# Altium schematic symbol library AU0005.SCHLIB: 67 symbols (part 2 of 2)
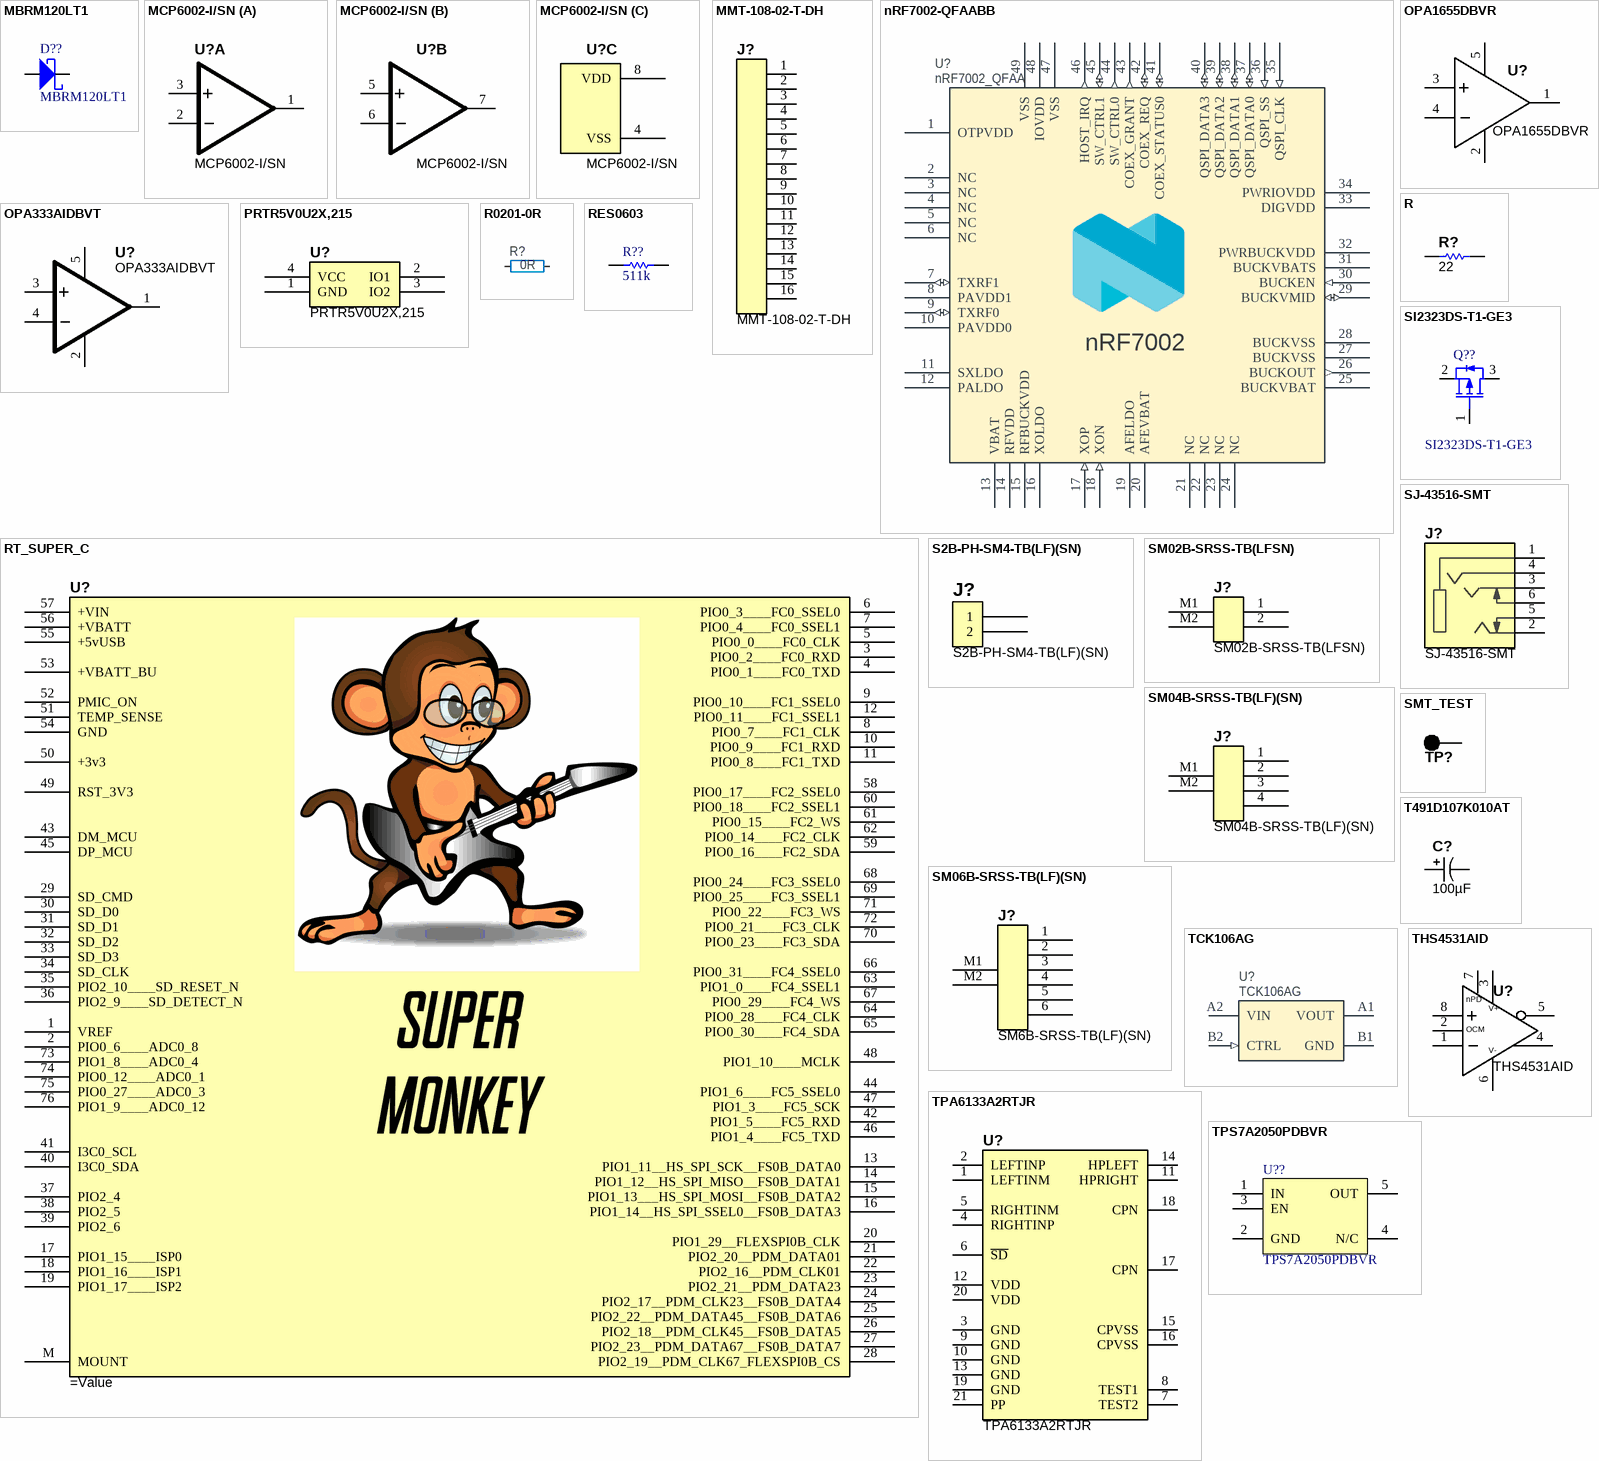
[diagram p3: symbols MBRM120LT1 to TPS7A2050PDBVR]

## S2B-PH-SM4-TB(LF)(SN)
designator J?
CONN HEADER PH SIDE 2POS 2MM SMD; Manufacturer: JST Sales America Inc; Connector Type: Header, Shrouded; Number of Positions: 2; Number of Positions Loaded: All; Pitch: 0.079" (2.00mm); Value: S2B-PH-SM4-TB(LF)(SN); Supplier 1: Digi-Key; Supplier Part Number 1: 455-1749-1-ND; Manufacturer Part Number: S2B-PH-SM4-TB(LF)(SN); RoHS: RoHS Compliant; Category: Connectors, Interconnects; Stock 1: 17700; Pricing 1: 1=0.5, 10=0.457, 100=0.3809, 500=0.3047 (USD); Contact Type: Male Pin; Number of Rows: 1; Row Spacing: -; Contact Mating Length: -; Mounting Type: Surface Mount, Right Angle; Termination: Solder; Fastening Type: -; Features: Solder Retention; Contact Finish: Tin; Contact Finish Thickness: -; Color: Natural; Packaging: Cut Tape (CT); ComponentLink1URL: http://www.jst-mfg.com/product/pdf/eng/ePH.pdf; ComponentLink1Description: http://www.jst-mfg.com/product/pdf/eng/ePH.pdf
footprint S2B-PH-SM4-TB(LF)(SN) (CONN HEADER PH SIDE 2POS 2MM SMD)
pins: 1, 2

## SI2323DS-T1-GE3
designator Q??
Single P-Channel 20 V 0.039 O 19 nC Surface Mount Power Mosfet - SOT-23; Manufacturer: Vishay Siliconix; Nominal Vgs: -1V; Rds On Max: 39mR; Input Capacitance: 1.02nF; Rise Time: 43ns; Drain to Source Voltage (Vdss): -20V; Continuous Drain Current (ID): 3.7A; Max Power Dissipation: 750mW; Gate to Source Voltage (Vgs): 8V; Turn-Off Delay Time: 71ns; Number of Elements: 1; Turn-On Delay Time: 25ns; Supplier: Digi-Key; Supplier Part Number: SI2323DS-T1-GE3CT-ND; Manufacturer Part Number: SI2323DS-T1-GE3; RoHS: Yes; Category: MOSFETs; Stock: 21430; Pricing: 1=0.73000, 10=0.64600, 100=0.49540, 500=0.39164, 1000=0.31332 (USD); Mounting Technology: Surface Mount; Case/Package: SOT-23-3; Pins: 3; Weight: 0.050717oz; Min Operating Temperature: -55°C; Max Operating Temperature: 150°C; Packaging: Tape and Reel; Package Quantity: 3000; Drain to Source Resistance: 39mR; Fall Time: 43ns; Power Dissipation: 750mW; Threshold Voltage: -1V; Element Configuration: Single; Drain to Source Breakdown Voltage: -20V; Number of Channels: 1; On-State Resistance: 39mR; Polarity: P-CHANNEL; Series: TrenchFET®; Drain-source On Resistance-Max: 39mR; Length: 3.04mm; Width: 1.4mm; Height: 1.02mm; Radiation Hardening: No; Lead Free: Lead Free; RoHS Compliant: Yes; ComponentLink1URL: https://datasheet.ciiva.com/943/72024-943572.pdf?src-supplier=Digi-Key; ComponentLink1Description: https://datasheet.ciiva.com/943/72024-943572.pdf?src-supplier=Digi-Key; ComponentLink2URL: https://datasheet.ciiva.com/943/72024-943573.pdf?src-supplier=Digi-Key; ComponentLink2Description: https://datasheet.ciiva.com/943/72024-943573.pdf?src-supplier=Digi-Key; ComponentLink3URL: https://datasheet.ciiva.com/943/72024-943574.pdf?src-supplier=Digi-Key; ComponentLink3Description: https://datasheet.ciiva.com/943/72024-943574.pdf?src-supplier=Digi-Key; ComponentLink4URL: https://datasheet.ciiva.com/11161/72024-11161611.pdf?src-supplier=Avnet; ComponentLink4Description: https://datasheet.ciiva.com/11161/72024-11161611.pdf?src-supplier=Avnet; ComponentLink5URL: https://datasheet.ciiva.com/16486/72024-16486094.pdf?src-supplier=Future+Electronics; ComponentLink5Description: https://datasheet.ciiva.com/16486/72024-16486094.pdf?src-supplier=Future+Electronics; ComponentLink6URL: https://datasheet.ciiva.com/7788/72024-7788762.pdf?src-supplier=Element14; ComponentLink6Description: https://datasheet.ciiva.com/7788/72024-7788762.pdf?src-supplier=Element14; ComponentLink7URL: https://datasheet.ciiva.com/28603/1911968-28603500.pdf?src-supplier=Element14; ComponentLink7Description: https://datasheet.ciiva.com/28603/1911968-28603500.pdf?src-supplier=Element14
footprint SOT95P237X89-3N (SOT23, 3-Leads, Body 2.92x2.37mm, Pitch 0.95mm, IPC Medium Density)
pins: 1 G, 2 S, 3 D

## SJ-43516-SMT
designator J?
Conn 3.5MM Audio Jack F 6 POS Solder RA SMD 6 Terminal 1 Port; Manufacturer: CUI Devices; Manufacturer Part Number: SJ-43516-SMT-TR; Value: SJ-43516-SMT; Package: 3.5MM SMD R/A; Price: $1.24; Availability: Available
footprint CUI_SJ-43516-SMT
pins: 1 SLEEVE, 2 TIP, 3 RING1, 4 RING2, 5 TIP_SWITCH, 6 RING_SWITCH

## SM02B-SRSS-TB(LFSN)
designator J?
JST SH Series, 1mm Pitch 2 Way 1 Row Right Angle PCB Header, Solder Termination, 1A; Number of Contacts: 2; Voltage Rating: 50V; Value: SM02B-SRSS-TB(LFSN); Manufacturer Part Number: SM02B-SRSS-TB(LFSN); Manufacturer: JST; Supplier 1: Digi-Key; Supplier Part Number 1: 455-1802-1-ND; Stock 1: 36619; Pricing 1: 1=0.44, 10=0.415, 100=0.3185, 500=0.277, 1000=0.22852 (USD); Contact Material: Copper Alloy; Number of Rows: 1; Termination: Solder; Orientation: Right Angle; Current Rating: 1A; Pitch: 1mm; ComponentLink1URL: https://datasheet.ciiva.com/11746/0900766b805b098a-11746439.pdf; ComponentLink1Description: https://datasheet.ciiva.com/11746/0900766b805b098a-11746439.pdf
footprint SM02B-SRSS-TB(LF)(SN) (CONN HEADER SH 2POS SIDE 1MM TIN)
pins: 1, 2, M1, M2

## SM04B-SRSS-TB(LF)(SN)
designator J?
Conn Shrouded Header HDR 4 POS 1mm Solder RA SMD T/R; Manufacturer: JST; Number of Positions: 4; Connector Type: Male Pin; Contact Resistance: 40mR; Max Current Rating: 1A; Max Voltage Rating (AC): 50V; Pitch: 0.039inch; Value: SM04B-SRSS-TB(LF)(SN); Supplier 1: Digi-Key; Manufacturer Part Number: SM04B-SRSS-TB(LF)(SN); Stock 1: 43886; Pricing 1: 1=0.61, 10=0.569, 100=0.436, 500=0.37914, 1000=0.31279 (USD); Mount: Surface Mount; Contact Material: Copper Alloy; Contact Plating: Copper,Tin; Colour: Natural; Housing Colour: Beige; Housing Material: Polyamide; Min Operating Temperature: -25°C; Max Operating Temperature: 85°C; Number of Rows: 1; Termination: Solder; Packaging: Tape and Reel; Orientation: Right Angle; Number of Contacts: 4; Max Voltage Rating (DC): 50V; Length: 6mm; Depth: 4.95mm; Lead Free: Lead Free; ComponentLink1URL: https://datasheet.ciiva.com/26894/getdatasheetpartid-499363-26894945.pdf; ComponentLink1Description: https://datasheet.ciiva.com/26894/getdatasheetpartid-499363-26894945.pdf; ComponentLink2URL: https://datasheet.ciiva.com/26894/getdatasheetpartid-640736-26894676.pdf; ComponentLink2Description: https://datasheet.ciiva.com/26894/getdatasheetpartid-640736-26894676.pdf; ComponentLink3URL: https://datasheet.ciiva.com/16487/jstsm04b-srss-tb-lf-sn-16487222.pdf; ComponentLink3Description: https://datasheet.ciiva.com/16487/jstsm04b-srss-tb-lf-sn-16487222.pdf; Supplier Part Number 1: 455-1804-1-ND
footprint SM04B-SRSS-TB(LF)(SN) (CONN HEADR SH 4POS SIDE 1MM TIN)
pins: 1, 2, 3, 4, M1, M2

## SM06B-SRSS-TB(LF)(SN)
designator J?, comment SM6B-SRSS-TB(LF)(SN)
6 Positions Header, Shrouded Connector 0.039" (1.00mm) Surface Mount, Right Angle Tin; Manufacturer: JST; Manufacturer Part Number: SM06B-SRSS-TB(LF)(SN); Number of Positions: 6; Connector Type: Male Pin; Contact Resistance: 40mR; Pitch: 1mm; Current Rating: 1A; Voltage Rating (AC): 50V; Insulation Resistance: 100MR; Gender: Male; Value: SM6B-SRSS-TB(LF)(SN); Supplier 1: Digi-Key; Stock 1: 40560; Pricing 1: 1=0.83, 10=0.782, 100=0.5996, 500=0.5214, 1000=0.4301 (USD); Mount: Surface Mount; Contact Material: Copper,Copper Alloy; Contact Plating: Copper,Tin,Lead; Colour: Natural; Housing Colour: Beige; Housing Material: Polyamide; Min Operating Temperature: -25°C; Max Operating Temperature: 85°C; Number of Rows: 1; Termination: Solder; Packaging: Tape and Reel; Orientation: Right Angle; Number of Contacts: 6; Lead Free: Lead Free; ComponentLink1URL: https://datasheet.ciiva.com/11752/0900766b8082f544-11752176.pdf; ComponentLink1Description: https://datasheet.ciiva.com/11752/0900766b8082f544-11752176.pdf; ComponentLink2URL: https://datasheet.ciiva.com/16217/sm06b-srss-tblfsn-16217552.pdf; ComponentLink2Description: https://datasheet.ciiva.com/16217/sm06b-srss-tblfsn-16217552.pdf; ComponentLink3URL: https://datasheet.ciiva.com/26894/getdatasheetpartid-490708-26894951.pdf; ComponentLink3Description: https://datasheet.ciiva.com/26894/getdatasheetpartid-490708-26894951.pdf; Supplier Part Number 1: 455-1806-1-ND; Material: Polyamide; Voltage Rating: 50V; Lead Pitch: 1mm; REACH SVHC: No SVHC; Flammability Rating: UL94 V-0; ComponentLink4URL: https://datasheet.ciiva.com/26894/getdatasheetpartid-639890-26894680.pdf; ComponentLink4Description: https://datasheet.ciiva.com/26894/getdatasheetpartid-639890-26894680.pdf; ComponentLink5URL: https://datasheet.ciiva.com/8052/91630-8052281.pdf; ComponentLink5Description: https://datasheet.ciiva.com/8052/91630-8052281.pdf; ComponentLink6URL: https://datasheet.ciiva.com/712/esr-712571.pdf; ComponentLink6Description: https://datasheet.ciiva.com/712/esr-712571.pdf; Max Current Rating: 1A; Max Voltage Rating (AC): 50V; Max Voltage Rating (DC): 50V; Length: 8mm; Depth: 4.95mm; ComponentLink7URL: https://datasheet.ciiva.com/712/esr-712572.pdf; ComponentLink7Description: https://datasheet.ciiva.com/712/esr-712572.pdf; ComponentLink8URL: https://datasheet.ciiva.com/730/esr-730671.pdf; ComponentLink8Description: https://datasheet.ciiva.com/730/esr-730671.pdf
footprint SM06B-SRSS-TB(LF)(SN) (CONN HEADR SH 6POS SIDE 1MM TIN)
pins: 1, 2, 3, 4, 5, 6, M1, M2

## SMT_TEST
designator TP?  (value not drawn)  (no BOM)
Value: SMT_TEST
footprint SMT_TP - 35 (.035" SMT Test pad)
footprint SMT_TP - 25 (.025" SMT Test pad)
footprint SMT_TP - 50 (.050" SMT Test pad)
footprint SMT_TP - 75 (.075" SMT Test pad)
footprint SMT_TP - 100 (.100" SMT Test pad)
footprint SMT_TP - 20 (.020" SMT Test pad)
footprint SMT_TP - 25 x 50 (.025" x .050" SMT Test pad)
pins: 1

## T491D107K010AT
designator C?, comment 100µF
CAP TANT 100UF 10V 10% 2917; Manufacturer Part Number: T491D107K010AT; Manufacturer: Kemet; ESR (Equivalent Series Resistance): 700 mOhm; Type: Molded; Package1: 2917 (7343 Metric); Lifetime @ Temp#: 2000 Hrs @ 85°C; Value_Voltage: 100µF_10V; Value: 100µF; Temperature Coefficient: Temperature Coefficient; ComponentLink1Description: Internal Datasheet; ComponentLink1URL: http://www.kemet.com/Lists/ProductCatalog/Attachments/254/KEM_T2005_T491.pdf; ComponentLink2Description: External Datasheet; ComponentLink2URL: http://www.kemet.com/Lists/ProductCatalog/Attachments/254/KEM_T2005_T491.pdf; Stocked: 0; Supplier 1: Digi-Key; Supplier Part Number 1: 399-3769-1-ND; Category: Capacitors; Sort Value: 100000000; Package: D; Sort Value Package: D_100000000; Capacitance: 100µF; Voltage - Rated: 10V; Tolerance: ±10%; Operating Temperature: -55°C ~ 125°C; Mounting Type: Surface Mount; Size / Dimension: 0.287" L x 0.169" W (7.30mm x 4.30mm); Height - Seated (Max): 0.122" (3.10mm); Lead Spacing: -; Features: General Purpose; Packaging: Cut Tape (CT)
footprint C_TANT_D_HD
footprint C_TANT_D_MD
footprint C_TANT_D_LD
pins: 1, 2 1

## TCK106AG
designator U?
1.0 A Load Switch IC with Slew Rate Control Driver in Ultra Small Package; Manufacturer: Toshiba; Manufacturer Part Number: TCK106AG,LF; Part number IPS: 00000004390; Part number Norautron: 26500627; Part number NEMS: 101900575; Note: N.A.; Pad Count: 4; Component Status: Active; Part Number: TCK106AG; ComponentLink1URL: https://toshiba.semicon-storage.com/info/docget.jsp?did=30131&prodName=TCK106AG; ComponentLink1Description: Datasheet; ComponentLink2URL: N.A.; ComponentLink2Description: Supplier link; HelpURL: N.A.; Footprint Doc: WLCSP-4; LatestRevisionDate: 2019-03-01; Published: 2019-02-17; Value: TCK106AG; Supplier 1: Digi-Key; Supplier Part Number 1: TCK106AGLFTR-ND; Supplier 2: Mouser; Supplier Part Number 2: 757-TCK106AGLF; Artikkelnr Noca: N.A.; Component Class: Misc_ICs; PartId: 101900575; Author: rsk
footprint BGA4C40P2X2_76X76X62 (BGA, 4-Leads, Body 0.8x0.8mm,  Pitch 0.40mm)
pins: A1 VOUT (power), A2 VIN (power), B1 GND (power), B2 CTRL (in)

## THS4531AID
designator U?
Operational Amplifiers - Op Amps Ultra Lo Pwr RRO Fully-Diff Amp; Manufacturer: Texas Instruments; Voltage Gain: 114dB; Common Mode Rejection Ratio: 90dB; Slew Rate: 15V/µs; Number of Channels: 1; Input Bias Current: 200nA; Input Offset Voltage (Vos): 100uV; Min Supply Voltage: 2.5V; Max Supply Voltage: 5.5V; Gain Bandwidth Product: 27MHz; Operating Supply Current: 250uA; Amplifier Type: GENERAL PURPOSE; Min Dual Supply Voltage: 1.25V; Max I/O Voltage: 400uV; Max Dual Supply Voltage: 2.75V; Output Current: 50mA; Nominal Gain Bandwidth Product: 36MHz; Power Supply Rejection Ratio (PSRR): 87dB; Supplier 1: Digi-Key; Manufacturer Part Number: THS4531AID; RoHS: Yes; Category: Amplifiers - Op Amps, Buffer, Instrumentation; Stock 1: 3055; Pricing 1: 1=4.06000, 10=3.65000, 25=3.45120, 100=2.99090, 250=2.83756, 500=2.54614, 1000=2.53225 (USD); Case/Package: D; Number of Pins: 8; Min Operating Temperature: -40°C; Max Operating Temperature: 125°C; Package Quantity: 75; Packaging: Rail/Tube; Number of Circuits: 1; Number of Elements: 1; Series: -; Number of Amplifiers: 1; Nominal Supply Current: 250uA; Supply Current: 250uA; Unity Gain Bandwidth Product: 27MHz; Bandwidth: 36MHz; Max Supply Current: 250uA; Length: 5mm; Width: 4mm; Height: 1.5mm; Radiation Hardening: No; Lead Free: Lead Free; REACH SVHC: No SVHC; ComponentLink1URL: https://datasheet.ciiva.com/6630/ths4531a-6630465.pdf?src-supplier=Digi-Key; ComponentLink1Description: https://datasheet.ciiva.com/6630/ths4531a-6630465.pdf?src-supplier=Digi-Key; ComponentLink2URL: https://datasheet.ciiva.com/22657/1698036-22657688.pdf?src-supplier=Element14; ComponentLink2Description: https://datasheet.ciiva.com/22657/1698036-22657688.pdf?src-supplier=Element14; ComponentLink3URL: https://datasheet.ciiva.com/28429/ths4531a-28429749.pdf?src-supplier=Avnet+Europe; ComponentLink3Description: https://datasheet.ciiva.com/28429/ths4531a-28429749.pdf?src-supplier=Avnet+Europe; Value: THS4531AID; Supplier Part Number 1: 296-35604-5-ND
footprint SOIC 8
pins: 1 -, 2 OCM, 3 VS+, 4 OUT+, 5 OUT-, 6 VS-, 7 PD, 8 +
text: nPD; V+; V-

## TPA6133A2RTJR
designator U?
138mW DirectPath Headphone Amplifier with GPIO control; Manufacturer: Texas Instruments; Geometry.Height: 0.8mm; Mouser Part Number: 595-TPA6133A2RTJR; Mouser Price/Stock: https://www.mouser.co.uk/ProductDetail/Texas-Instruments/TPA6133A2RTJR?qs=xahoIJ7Tb4BkyS7VmN%2FRcw%3D%3D; Manufacturer Part Number: TPA6133A2RTJR; Datasheet Link: http://www.ti.com/lit/gpn/tpa6133a2; Value: TPA6133A2RTJR
footprint QFN20 (QFN, 20-Leads, Body 4.0x4.0mm (max), Pitch 0.50mm, IPC High Density)
pins: 1 LEFTINM, 2 LEFTINP, 3 GND, 4 RIGHTINP, 5 RIGHTINM, 6 ~{SD}, 7 TEST2, 8 TEST1, 9 GND, 10 GND, 11 HPRIGHT, 12 VDD (power), 13 GND, 14 HPLEFT, 15 CPVSS (power), 16 CPVSS (power), 17 CPN (power), 18 CPN (power), 19 GND, 20 VDD (power), 21 PP

## TPS7A2050PDBVR
designator U??
300-mA, ultra-low-noise, low-IQ, low-dropout (LDO) linear regulator with high PSRR 5-SOT-23 -40 to 125; Manufacturer: Texas Instruments; Supplier: Mouser; Supplier Part Number: 595-TPS7A2050PDBVR; Manufacturer Part Number: TPS7A2050PDBVR; RoHS: Yes; Category: Voltage Regulators - Linear; Stock: 73824; Pricing: 1=0.49000, 10=0.41800, 50=0.41800, 100=0.29000, 1000=0.19000, 10000=0.15200 (USD); RoHS Compliant: Yes
footprint SOT95P245X110-5N (SOT23, 5-Leads, Body 2.90x2.45mm, Pitch 0.95mm, IPC Medium Density)
pins: 1 IN, 2 GND, 3 EN, 4 N/C, 5 OUT

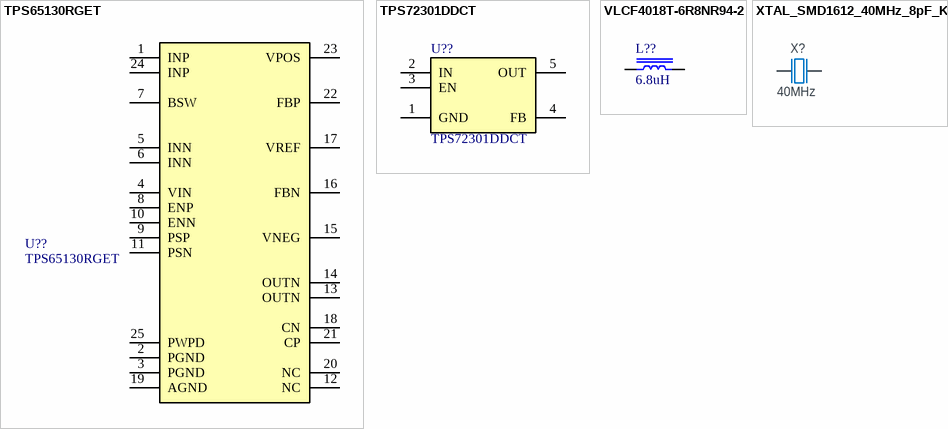
[diagram p2: symbols TPS65130RGET to XTAL_SMD1612_40MHz_8pF_KDS]

## TPS65130RGET
designator U??
Split-Rail Converter with Dual, Positive and Negative Outputs (300mA typ) 24-VQFN -40 to 85; Manufacturer: Texas Instruments; Output Voltage: 15V; Output Current: 800mA; Switching Frequency: 1.4MHz; Number of Outputs: 2; Max Output current: 2A; Efficiency: 85%; Max Supply Voltage: 5.5V; Min Input Voltage: 2.7V; Min Output Voltage: -2V; Max Output Voltage: -15V; Synchronous Rectifier: No; Quiescent Current: 500uA; Topology: Buck-Boost,Boost; Output Type: Adjustable; Frequency: 1.38MHz; Nominal Supply Current: 300uA; Max Power Dissipation: 2.646W; Supplier: Mouser; Supplier Part Number: 595-TPS65130RGET; Manufacturer Part Number: TPS65130RGET; RoHS: Yes; Category: Voltage Regulators - Switching; Stock: 416; Pricing: 1=3.26000, 10=2.93000, 25=2.77000, 50=2.77000, 100=2.40000, 250=2.27000, 500=2.04000, 1000=1.74000, 2500=1.68000, 5000=1.62000, 10000=1.78000 (USD); Case/Package: VQFN; Pins: 24; Weight: 0.001524oz; Contact Plating: Gold; Min Operating Temperature: -40°C; Max Operating Temperature: 85°C; Packaging: Tape and Reel; Package Quantity: 250; Series: -; Operating Supply Voltage: 5.5V; Min Supply Voltage: 2.7V; Current - Output 1: 800mA; Current - Output 2: 800mA; Voltage - Output 1: 15V; Voltage - Output 2: -2V; Termination: SMD/SMT; Supply Current: 300uA; Length: 4mm; Width: 4mm; Height: 0.88mm; Radiation Hardening: No; Lead Free: Lead Free; Reach SVHC Compliant: Yes; RoHS Compliant: Yes; ComponentLink1URL: https://datasheet.ciiva.com/15113/getdatasheetpartid-188374-15113785.pdf?src-supplier=Verical; ComponentLink1Description: https://datasheet.ciiva.com/15113/getdatasheetpartid-188374-15113785.pdf?src-supplier=Verical; ComponentLink2URL: https://datasheet.ciiva.com/2035/tps65130-2035493.pdf?src-supplier=Digi-Key; ComponentLink2Description: https://datasheet.ciiva.com/2035/tps65130-2035493.pdf?src-supplier=Digi-Key
footprint QFN50P400X400X100_HS-25N (QFN, 24-Leads, Body 4.00x4.00mm, Pitch 0.50mm, Thermal Pad 2.45x2.45mm, IPC Medium Density)
pins: 1 INP, 2 PGND, 3 PGND, 4 VIN, 5 INN, 6 INN, 7 BSW, 8 ENP, 9 PSP, 10 ENN, 11 PSN, 12 NC, 13 OUTN, 14 OUTN, 15 VNEG, 16 FBN, 17 VREF, 18 CN, 19 AGND, 20 NC, 21 CP, 22 FBP, 23 VPOS, 24 INP, 25 PWPD

## TPS72301DDCT
designator U??
LDO Regulator Neg -1.2V to -10V 0.2A 5-Pin TSOT-23 T/R / IC REG LDO NEG ADJ 0.2A SOT23-5; Manufacturer: Texas Instruments; Output Current: 200mA; Output Voltage: -1.162V; Max Supply Voltage: -2.7V; Dropout Voltage: 280mV; Number of Outputs: 1; Min Current Limit: 300mA; Polarity: Negative; Quiescent Current: 200uA; Accuracy: 1%; Operating Supply Current: 130nA; Power Supply Rejection Ratio (PSRR): 48dB; Reference Voltage: -1.186V; Output Type: Adjustable; Max Supply Current: 500uA; Supplier: Mouser; Supplier Part Number: 595-TPS72301DDCT; Manufacturer Part Number: TPS72301DDCT; RoHS: Yes; Category: Voltage Regulators - Linear; Stock: 437; Pricing: 1=3.43000, 10=3.08000, 50=2.91000, 100=2.52000, 1000=1.82000, 10000=1.76000 (USD); Mounting Technology: Surface Mount; Case/Package: SOT; Pins: 5; Weight: 0.000459oz; Min Operating Temperature: -40°C; Max Operating Temperature: 125°C; Min Input Voltage: -10V; Packaging: Tape and Reel; Max Output current: 200mA; Number of Regulators: 1; Min Output Voltage: -1.2V; Max Output Voltage: -10V; Package Quantity: 250; Series: -; Output Configuration: Negative; Radiation Hardening: No; Reach SVHC Compliant: Yes; Lead Free: Lead Free; RoHS Compliant: Yes; ComponentLink1URL: http://www.ti.com/general/docs/lit/getliterature.tsp?genericPartNumber=TPS723&amp;&amp;fileType=pdf&src-supplier=Farnell; ComponentLink1Description: http://www.ti.com/general/docs/lit/getliterature.tsp?genericPartNumber=TPS723&amp;&amp;fileType=pdf&src-supplier=Farnell; ComponentLink2URL: http://www.farnell.com/datasheets/1904669.pdf?src-supplier=Element14; ComponentLink2Description: http://www.farnell.com/datasheets/1904669.pdf?src-supplier=Element14; ComponentLink3URL: http://www.ti.com/general/docs/suppproductinfo.tsp?distId=10&amp;gotoUrl=http%3A%2F%2Fwww.ti.com%2Flit%2Fgpn%2Ftps723&src-supplier=Digi-Key; ComponentLink3Description: http://www.ti.com/general/docs/suppproductinfo.tsp?distId=10&amp;gotoUrl=http%3A%2F%2Fwww.ti.com%2Flit%2Fgpn%2Ftps723&src-supplier=Digi-Key; ComponentLink4URL: http://www.ti.com/lit/gpn/tps723?src-supplier=Mouser; ComponentLink4Description: http://www.ti.com/lit/gpn/tps723?src-supplier=Mouser; ComponentLink5URL: http://www.ti.com/general/docs/lit/getliterature.tsp?genericPartNumber=TPS723&&fileType=pdf&src-supplier=Avnet; ComponentLink5Description: http://www.ti.com/general/docs/lit/getliterature.tsp?genericPartNumber=TPS723&&fileType=pdf&src-supplier=Avnet
footprint SOT95P245X110-5N (SOT23, 5-Leads, Body 2.90x2.45mm, Pitch 0.95mm, IPC Medium Density)
pins: 1 GND, 2 IN, 3 EN, 4 FB, 5 OUT

## VLCF4018T-6R8NR94-2
designator L??, comment Inductance: 6.8uH  (hidden comment: VLCF4018T)
Inductor Power Shielded Wirewound 6.8uH 30% 100KHz Ferrite 1.55A 0.124Ohm DCR 1515 T/R; Manufacturer: TDK; Manufacturer Part Number: VLCF4018T-6R8NR94-2; Current Rating: 940mA; DC Resistance (DCR): 124mR; Supplier: Newark; Supplier Part Number: 99Y2757; RoHS: Yes; Category: Fixed Inductors; Stock: 1000; Pricing: 1000=0.35700, 2000=0.34600 (USD); Mounting Technology: Surface Mount; Case/Package: Nonstandard; Pins: 2; Core Material: Ferrite; Min Operating Temperature: -40°C; Max Operating Temperature: 105°C; Package Quantity: 1000; Saturation Current: 940mA; Tolerance: 30%; Shielding: Shielded; Packaging: Tape and Reel; Inductance Tolerance: 30%; Resistor Type: Wirewound; Test Frequency: 100kHz; Max DC Current: 940mA; Termination: SMD/SMT; RMS Current (Irms): 1.55A; DC Current: 940mA; Series: VLCF; Max Current Rating: 940mA; Inductor Type: POWER; Length: 4mm; Width: 4mm; Height: 1.8mm; Height - Seated (Max): 0.071inch; Depth: 4.1mm; Reach SVHC Compliant: Yes; Military Standard: Not; Lead Free: Lead Free; RoHS Compliant: Yes; ComponentLink1URL: https://datasheet.ciiva.com/8045/321083-8045776.pdf?src-supplier=Element14; ComponentLink1Description: https://datasheet.ciiva.com/8045/321083-8045776.pdf?src-supplier=Element14; ComponentLink2URL: https://datasheet.ciiva.com/11800/0900766b807a173c-11800336.pdf?src-supplier=Rs; ComponentLink2Description: https://datasheet.ciiva.com/11800/0900766b807a173c-11800336.pdf?src-supplier=Rs; ComponentLink3URL: https://datasheet.ciiva.com/22725/321083-22725934.pdf?src-supplier=Element14; ComponentLink3Description: https://datasheet.ciiva.com/22725/321083-22725934.pdf?src-supplier=Element14; ComponentLink4URL: https://datasheet.ciiva.com/30240/169print-detail-pdf-phplangenpart-novlcf4018t-6r8nr94-2nreimp-unit-x-30240587.pdf?src-supplier=Onlinecomponents.com; ComponentLink4Description: https://datasheet.ciiva.com/30240/169print-detail-pdf-phplangenpart-novlcf4018t-6r8nr94-2nreimp-unit-x-30240587.pdf?src-supplier=Onlinecomponents.com
footprint VLCF4018T-6R8NR94-2
pins: 1, 2

## XTAL_SMD1612_40MHz_8pF_KDS
designator X?, comment 40MHz
XTAL SMD 1612, 40MHz, Cl=8pF, Total Tol: ±10ppm, -30 - 85C; Part Number: XTAL_SMD1612_40MHz_8pF_KDS; Manufacturer: KDS; Manufacturer Part Number: DSX1612_40MHz; Part number NEMS: 101600102; Pad Count: 4; Note: XTAL SMD 40.000MHz 8pF; Artikkelnr Noca: N.A.; Component Status: Active; PartId: 101600102; Component Class: Oscillators; Author: hany; ComponentLink1URL: N.A.; ComponentLink1Description: Datasheet; ComponentLink2URL: N.A.; ComponentLink2Description: Supplier link; HelpURL: N.A.; Footprint Doc: XTAL_1612; LatestRevisionDate: 2022-11-15; Published: 2022-11-15; Value: 40MHz; Supplier 1: N.A.; Supplier Part Number 1: N.A.; Supplier 2: N.A.; Supplier Part Number 2: N.A.; Part number IPS: N.A.; Part number Norautron: N.A.
footprint BT-XTAL_1612 (Crystal 1.6 x 1.2 mm)
pins: 1 inp, 2 GND hidden to GND, 3 out, 4 GND hidden to GND